# Altium footprint library IC_On_Semiconductor_MC74HC595ADG_eec_IPC_B.PcbLib: 1 footprints
Each footprint in its own frame and in the unit in brackets; x right, y up, seen from the top. Pads: shape width x height; smd on the part's side, far side on the other; paste and mask are expansions set on the pad; w line width, h text height; cw(c..) or ccw(c..) is an arc to the next point about the centre after c.
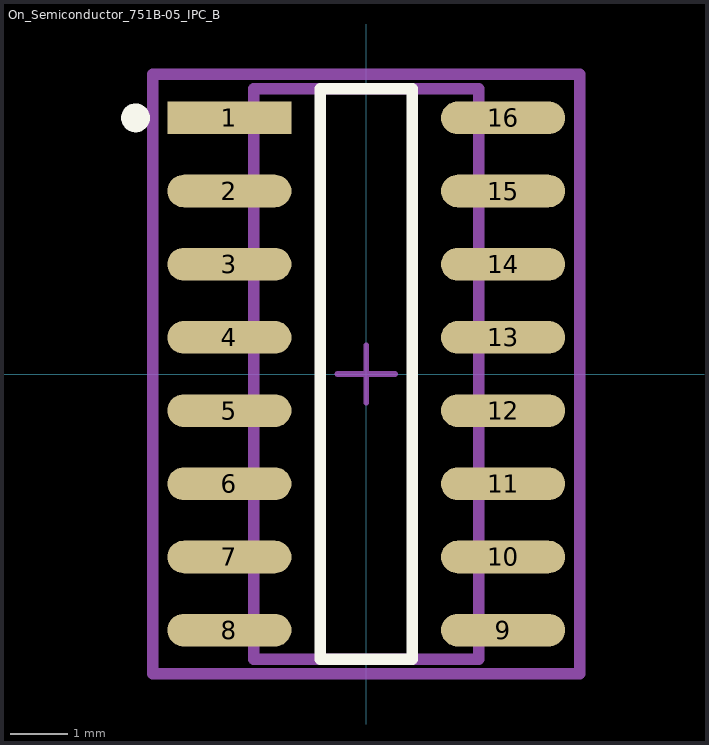
[diagram p0: the footprint, top view; thin cyan lines are the x and y axes]

## On_Semiconductor_751B-05_IPC_B [mil]
pads (16):
  rect 84.81x22.32 smd paste+0 mask+0: 1(-93.55,175)
  rrect100% 84.81x22.32 smd paste+0 mask+0: 2(-93.55,125) 3(-93.55,75) 4(-93.55,25) 5(-93.55,-25) 6(-93.55,-75) 7(-93.55,-125) 8(-93.55,-175) 9(93.55,-175) 10(93.55,-125) 11(93.55,-75) 12(93.55,-25) 13(93.55,25) 14(93.55,75) 15(93.55,125) 16(93.55,175)
Top Overlay:
  circle w9.84: c-157.6,175 r4.92
  lines w7.87: -31.46,-194.88 31.46,-194.88 31.46,194.88 -31.46,194.88 -31.46,-194.88
Mechanical 10:
  lines w7.87: -145.79,-204.72 145.79,-204.72 145.79,204.72 -145.79,204.72 -145.79,-204.72
  text ".Designator" at 0,7.41 h39.37
Mechanical 12:
  lines w7.87: -76.77,-194.88 76.77,-194.88 76.77,194.88 -76.77,194.88 -76.77,-194.88
Mechanical 15:
  lines w3.94: -19.68,0 19.68,0 ; 0,-19.68 0,19.68
  lines w7.87: -145.79,-204.72 145.79,-204.72 145.79,204.72 -145.79,204.72 -145.79,-204.72
3D body "IC_On_Semiconductor_MC74HC595ADG_eec.STEP": height 10, standoff 0, extent -145.79,-204.72 145.79,204.72